# EAGLE library part GPS-610F (library 000001)
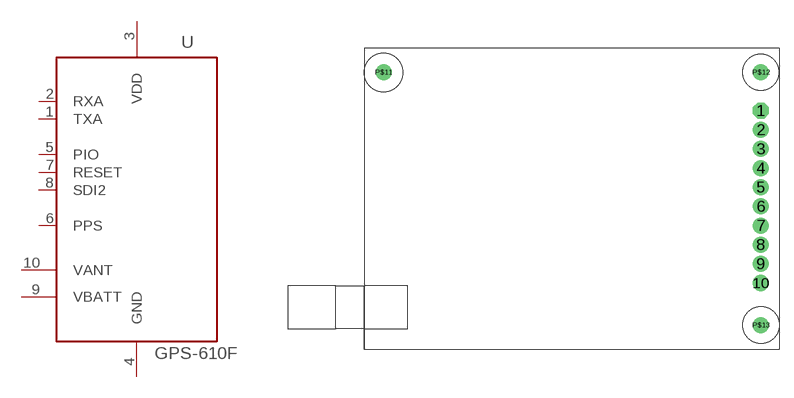
[diagram p84: symbol with the pads of 610F; footprint 610F]

Designator prefix -

## GPS-610FG  [610F]
1  TXA  out
2  RXA  in
3  VDD  pwr
4  GND  pwr
5  PIO  in
6  PPS  out
7  RESET  out
8  SDI2  out
9  VBATT  pwr
10  VANT  pwr

## Footprint 610F (pad centres in mm)
drill 0.5 pad 1.676 octagon: 1 0,0
drill 0.5 pad 1.676 round: 2 0,-2; 3 0,-4; 4 0,-6; 5 0,-8; 6 0,-10; 7 0,-12; 8 0,-14; 9 0,-16; 10 0,-18; P$11 -39.4,4; P$12 0,4; P$13 0,-22.4